# Altium schematic symbol library RFID Board.SchLib: 108 symbols (part 2 of 2)
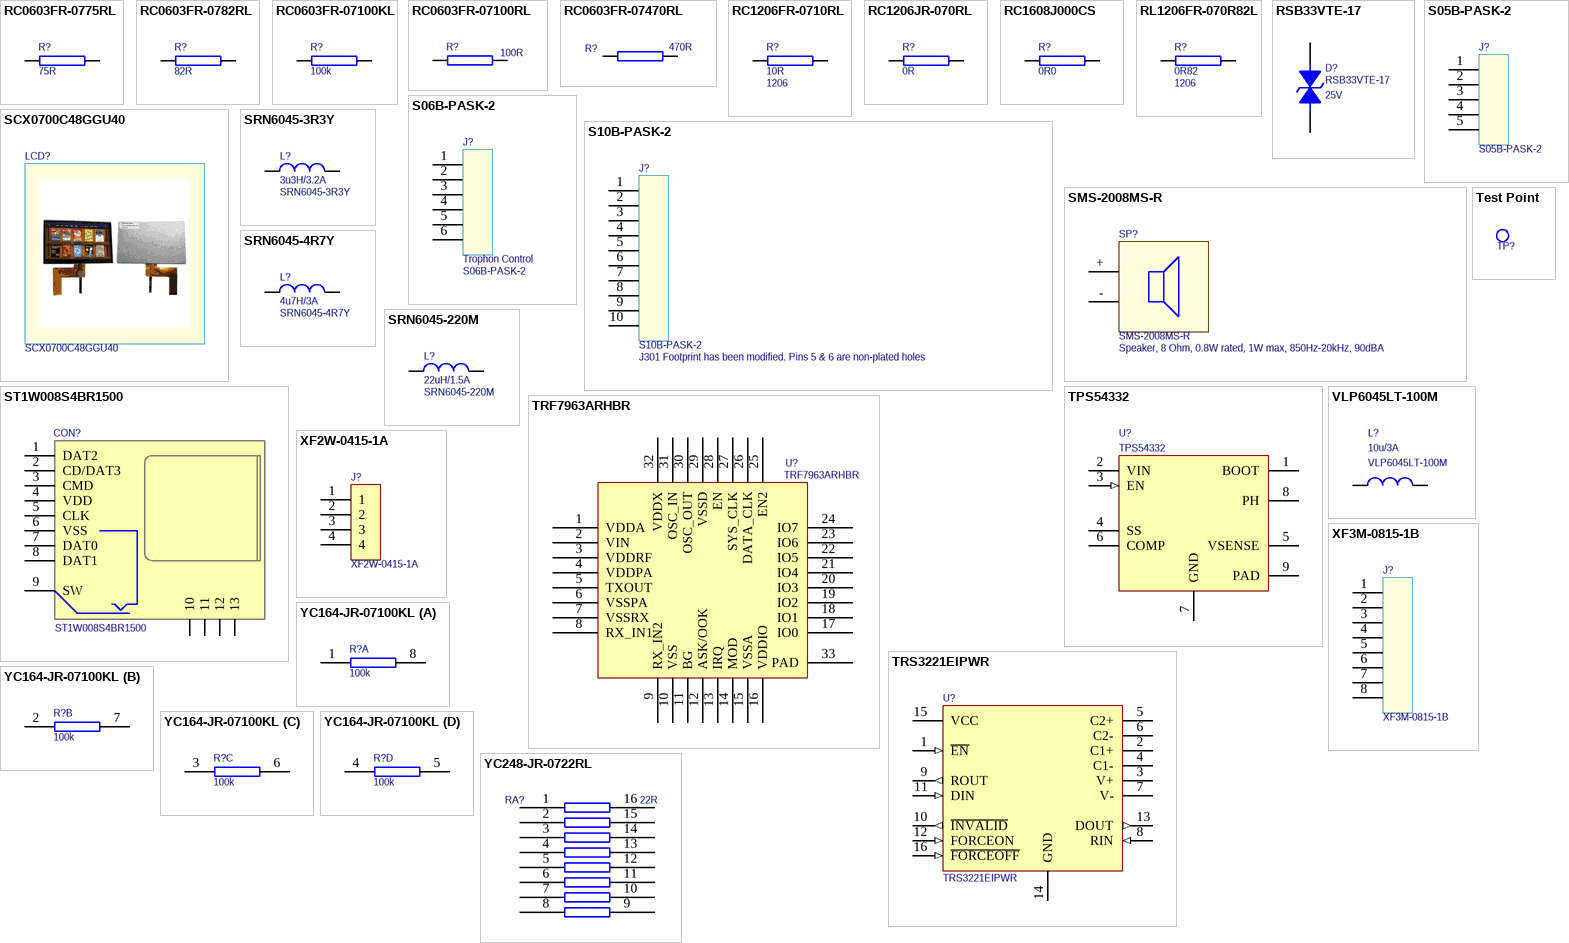
[diagram p3: symbols RC0603FR-0775RL to YC248-JR-0722RL]

## RC0603FR-07100KL
designator R?, comment 100k
Resistor, Thick Film, 0.1W, ±1%, ±100ppm/°C; 02 Part Number: RC0603FR-07100KL; 08 Manufacturer: Yageo; 13 Reviewed By: P.Moutzouris; 06 Package: 0603; 12 Author: D.Grace; 05 Footprint Type: SMD; 03 Description: Resistor, Thick Film, 0.1W, ±1%, ±100ppm/°C; 04 Value: 100k; 09 Digikey PN: 311-100KHRTR-ND; 01 Part Category: Resistor; ComponentLink1Description: Datasheet; ComponentLink1URL: L:\Datasheet\Resistor\PYu-RC0603_51_RoHS_L_4.pdf
footprint RESC1608X06N(0603) (Chip Resistor 0603, 2-Leads, Body 1.6x0.8mm, IPC Medium Density)
pins: 1, 2

## RC0603FR-07100RL
designator R?, comment 100R
Resistor, Thick Film, 0.1W, ±1%, ±100ppm/°C; 02 Part Number: RC0603FR-07100RL; 08 Manufacturer: Yageo; 13 Reviewed By: P.Moutzouris; 06 Package: 0603; 12 Author: D.Grace; 05 Footprint Type: SMD; 03 Description: Resistor, Thick Film, 0.1W, ±1%, ±100ppm/°C; 04 Value: 100R; 09 Digikey PN: 311-100HRTR-ND; 01 Part Category: Resistor; ComponentLink1Description: Datasheet; ComponentLink1URL: L:\Datasheet\Resistor\PYu-RC0603_51_RoHS_L_4.pdf
footprint RESC1608X06N(0603) (Chip Resistor 0603, 2-Leads, Body 1.6x0.8mm, IPC Medium Density)
pins: 1, 2

## RC0603FR-07470RL
designator R?, comment 470R
Resistor, Thick Film, 0.1W, ±1%, ±100ppm/°C; 02 Part Number: RC0603FR-07470RL; 08 Manufacturer: Yageo; 13 Reviewed By: P.Moutzouris; 06 Package: 0603; 12 Author: D.Grace; 05 Footprint Type: SMD; 03 Description: Resistor, Thick Film, 0.1W, ±1%, ±100ppm/°C; 04 Value: 470R; 09 Digikey PN: 311-470HRTR-ND; 01 Part Category: Resistor; ComponentLink1Description: Datasheet; ComponentLink1URL: L:\Datasheet\Resistor\PYu-RC0603_51_RoHS_L_4.pdf
footprint RESC1608X06N(0603) (Chip Resistor 0603, 2-Leads, Body 1.6x0.8mm, IPC Medium Density)
pins: 1, 2

## RC1206FR-0710RL
designator R?, comment 10R  06 Package: 1206
Resistor, Thick Film, 0.25W, ±1%, ±100ppm/°C; 08 Manufacturer: Yageo; 02 Part Number: RC1206FR-0710RL; 12 Author: M.Fineschi; 05 Footprint Type: SMD; 03 Description: Resistor, Thick Film, 0.25W, ±1%, ±100ppm/°C; 04 Value: 10R; 09 Digikey PN: 311-10.0FRTR-ND; 01 Part Category: Resistor; ComponentLink1Description: Datasheet; ComponentLink1URL: L:\Datasheet\Resistor\PYu-RC1206_51_RoHS_L-4.pdf
footprint RESC3116X07N(1206) (Chip Resistor, 2-Leads, Body 3.10x1.60mm, IPC Medium Density)
pins: 1, 2

## RC1206JR-070RL
designator R?, comment 0R
Resistor, Thick Film, 0.25W, ±1%, ±100ppm/°C; 08 Manufacturer: Yageo; 02 Part Number: RC1206JR-070RL; 06 Package: 1206; 12 Author: M.Fineschi; 05 Footprint Type: SMD; 03 Description: Resistor, Thick Film, 0.25W, ±1%, ±100ppm/°C; 04 Value: 0R; 09 Digikey PN: 311-0.0ERTR-ND; 01 Part Category: Resistor; ComponentLink1Description: Datasheet; ComponentLink1URL: L:\Datasheet\Resistor\PYu-RC1206_51_RoHS_L-4.pdf
footprint RESC3116X07N(1206) (Chip Resistor, 2-Leads, Body 3.10x1.60mm, IPC Medium Density)
pins: 1, 2

## RC1608J000CS
designator R?, comment 0R0
Resistor, Thick Film, 0.1W, ±1%, ±100ppm/°C; 02 Part Number: RC1608J000CS; 08 Manufacturer: Samsung Electro-Mechanics; 13 Reviewed By: P.Moutzouris; 06 Package: 0603; 12 Author: K.Sukumar; 05 Footprint Type: SMD; 03 Description: Resistor, Thick Film, 0.1W, ±1%, ±100ppm/°C; 04 Value: 0R0; 09 Digikey PN: 1276-3510-2-ND; 01 Part Category: Resistor; ComponentLink1Description: Datasheet; ComponentLink1URL: L:\Datasheet\Resistor\Chip_Resistor.pdf
footprint RESC1608X06N(0603) (Chip Resistor 0603, 2-Leads, Body 1.6x0.8mm, IPC Medium Density)
pins: 1, 2

## RL1206FR-070R82L
designator R?, comment 0R82  06 Package: 1206
Resistor, Thick Film, 0.25W, ±1%, ±100ppm/°C; 08 Manufacturer: Yageo; 02 Part Number: RL1206FR-070R82L; 12 Author: M.Fineschi; 05 Footprint Type: SMD; 03 Description: Resistor, Thick Film, 0.25W, ±1%, ±100ppm/°C; 04 Value: 0R82; 09 Digikey PN: 311-.82LWTR-ND; 01 Part Category: Resistor; ComponentLink1Description: Datasheet; ComponentLink1URL: L:\Datasheet\Resistor\PYu-RC1206_51_RoHS_L-4.pdf
footprint RESC3116X07N(1206) (Chip Resistor, 2-Leads, Body 3.10x1.60mm, IPC Medium Density)
pins: 1, 2

## RSB33VTE-17
designator D?  Notes: 25V
Diode, TVS, Bidirectional, Standoff 25V, Break down 29.7V, -55°C to 125°C; 02 Part Number: 8240RSB33VTE-1721; 01 Part Category: Discreet; 08 Manufacturer: Rohm Semiconductor; 06 Package: SC-90; 05 Footprint Type: SMD; 12 Author: M.Fineschi; 03 Description: Diode, TVS, Bidirectional, Standoff 25V, Break down 29.7V, -55°C to 125°C; 04 Value: RSB33VTE-17; ComponentLink1Description: Datasheet; ComponentLink1URL: I:\Engineering\Library\Datasheet\Protection\rsb33v.pdf; 09 Digikey PN: RSB33VTE-17TR-ND
footprint SODFL250X70-2N (SODFL, 2-Leads, Body 1.25x2.50mm, IPC Medium Density)
pins: 1, 2

## S05B-PASK-2
designator J?
Connector 5 way, 2mm, 3A, TH Right-Angle; 08 Manufacturer: JST; 12 Author: J.McLachlan; Notes: Mates with PAP-05V-S-ND or 05PAF-6S and PAFS-05V-S; 02 Part Number: S05B-PASK-2; 03 Description: Connector 5 way, 2mm, 3A, TH Right-Angle; 04 Value: S05B-PASK-2; 01 Part Category: Connector; 06 Package: TH; 09 Digikey PN: 455-1850-ND; 05 Footprint Type: TH; ComponentLink1Description: Datasheet; ComponentLink1URL: L:\Datasheet\Connector\ePA-F.pdf
footprint S05B-PASK-2
pins: 1, 2, 3, 4, 5

## S06B-PASK-2
designator J?, comment Trophon Control  02 Part Number: S06B-PASK-2
Connector 6 way, 2mm, 3A, TH Right-Angle; 08 Manufacturer: JST Sales America; 12 Author: M.Fineschi; Notes: Mates with PAP-05V-S-ND or 05PAF-6S and PAFS-05V-S; 03 Description: Connector 6 way, 2mm, 3A, TH Right-Angle; 04 Value: S06B-PASK-2; 01 Part Category: Connector; 06 Package: TH; 09 Digikey PN: 455-1851-ND; 05 Footprint Type: TH; ComponentLink1Description: Datasheet; ComponentLink1URL: L:\Datasheet\Connector\ePA-F.pdf
footprint S06B-PASK-2
pins: 1, 2, 3, 4, 5, 6

## S10B-PASK-2
designator J?  Notes: J301 Footprint has been modified. Pins 5 & 6 are non-plated holes
Connector 10 way, 2mm, 3A, TH Right-Angle; 08 Manufacturer: JST; 12 Author: M.Fineschi; 02 Part Number: S10B-PASK-2; 03 Description: Connector 10 way, 2mm, 3A, TH Right-Angle; 04 Value: S10B-PASK-2; 01 Part Category: Connector; 06 Package: TH; 09 Digikey PN: 455-1855-ND; 05 Footprint Type: TH; ComponentLink1Description: Datasheet; ComponentLink1URL: L:\Datasheet\Connector\ePA-F.pdf
footprint S010B-PASK-2
pins: 1, 2, 3, 4, 5, 6, 7, 8, 9, 10

## SCX0700C48GGU40
designator LCD?  (mechanical)
LCD, TFT, 7 inch, 800x480, 3V3, 40 pin 24bit RGB, 6 pin I2C Capacitive Touch, 9V6 160mA LED Backlight; 01 Part Category: LCD Screen; 08 Manufacturer: Anders; 03 Description: LCD, TFT, 7 inch, 800x480, 3V3, 24bit RGB, Capacitive Touch, 9V6 160mA LED Backlight; 12 Author: M.Fineschi; 02 Part Number: SCX0700C48GGU40; 04 Value: SCX0700C48GGU40; ComponentLink1Description: Datasheet; ComponentLink1URL: L:\Datasheet\LCD\Anders - SCX0700C48GGU40.pdf

## SMS-2008MS-R
designator SP?
Speaker, 8 Ohm, 0.8W rated, 1W max, 850Hz-20kHz, 90dBA; 01 Part Category: Audio; 08 Manufacturer: Pui Audio; 06 Package: 20x20x4.5mm; 12 Author: M.Fineschi; 05 Footprint Type: SMD; 02 Part Number: SMS-2008MS-R; 04 Value: SMS-2008MS-R; ComponentLink1Description: Datasheet; ComponentLink1URL: L:\Datasheet\Audio\SMS-2008MS-R.pdf; 03 Description: Speaker, 8 Ohm, 0.8W rated, 1W max, 850Hz-20kHz, 90dBA
footprint SMS-2008MS-R (Speaker SMT, 20x20mm)
pins: +, -

## SRN6045-3R3Y
designator L?, comment 3u3H/3.2A  02 Part Number: SRN6045-3R3Y
Inductor, 3u3H , I = 3.2A, 30.2mOhm, SRF 27MHz, ±30%, 5A Saturation; 01 Part Category: Passive; 08 Manufacturer: Bourns Inc; 06 Package: 6mm x 6mm; 05 Footprint Type: SMD; 12 Author: J.McLachlan; 03 Description: Inductor, 3u3H , I = 3.2A, 30.2mOhm, SRF 27MHz, ±30%, 5A Saturation; 04 Value: 3u3H; ComponentLink1Description: Datasheet; ComponentLink1URL: L:\Datasheet\Inductor\SRN6045.pdf; 09 Digikey PN: SRN6045-3R3YTR-ND
footprint SRN6045-1R0Y (6mm x 6mm, 2 pin Inductor)
pins: 1, 2

## SRN6045-4R7Y
designator L?, comment 4u7H/3A  02 Part Number: SRN6045-4R7Y
Inductor, 4u7H , I = 3A, 37.6mOhm, SRF 22MHz, ±30%, 4A Saturation; 01 Part Category: Passive; 08 Manufacturer: Bourns Inc; 06 Package: 6mm x 6mm; 05 Footprint Type: SMD; 12 Author: J.McLachlan; 03 Description: Inductor, 4u7H , I = 3A, 37.6mOhm, SRF 22MHz, ±30%, 4A Saturation; 04 Value: 4u7H; ComponentLink1Description: Datasheet; ComponentLink1URL: L:\Datasheet\Inductor\SRN6045.pdf; 09 Digikey PN: SRN6045-4R7YTR-ND
footprint SRN6045-1R0Y (6mm x 6mm, 2 pin Inductor)
pins: 1, 2

## SRN6045-220M
designator L?, comment 22uH/1.5A  02 Part Number: SRN6045-220M
Inductor, 22uH , I = 1.5A,142mOhm, SRF 11MHz, ±20%, 1.9A Saturation; 08 Manufacturer: Bourns Inc; 06 Package: 6mm x 6mm; 05 Footprint Type: SMD; 12 Author: M.Fineschi; 03 Description: Inductor, 22uH , I = 1.5A,142mOhm, SRF 11MHz, ±20%, 1.9A Saturation; 04 Value: 22uH; 01 Part Category: Inductor; ComponentLink1Description: Datasheet; ComponentLink1URL: L:\Datasheet\Inductor\SRN6045.pdf; 09 Digikey PN: SRN6045-150MTR-ND
footprint SRN6045-1R0Y (6mm x 6mm, 2 pin Inductor)
pins: 1, 2

## ST1W008S4BR1500
designator CON?
Connector Micro SD-Card, With Card Detection Switch, Hinged Lid, Top Board Mounting; 08 Manufacturer: JAE Electronics; 06 Package: SMD; 12 Author: M.Fineschi; 03 Description: Connector Micro SD-Card, With Card Detection Switch, Hinged Lid, Top Board Mounting; 04 Value: ST1W008S4BR1500; 01 Part Category: Connector; 09 Digikey PN: 670-2345-1-ND; 05 Footprint Type: SMD; ComponentLink1Description: Datasheet; ComponentLink1URL: I:\Engineering\Library\Datasheet\Connector\ST1W008S4BR1500.pdf; 02 Part Number: ST1W008S4BR1500
footprint ST1W008S4BR1500 (JAE micro-SD card slot, 13.85 x 21.55 mm)
pins: 1 DAT2, 2 CD/DAT3, 3 CMD, 4 VDD, 5 CLK, 6 VSS, 7 DAT0, 8 DAT1, 9 SW, 10, 11, 12, 13

## Test Point
designator TP?, comment LFX_P  (value not drawn)  (no BOM)
Test Point; 01 Part Category: PCB; 12 Author: D.Grace
footprint Test Point 1mm (SMD Test Point 1mm)
pins: TP

## TPS54332
designator U?
Step Down, Adjustable, Vomin = 0.8V, Vin = 3.5 - 28V, Fs = 1MHz, Io = 3.5A, -40  ~ 125C; 01 Part Category: IC; 08 Manufacturer: Texas Instruments; 06 Package: 8 SOIC; 05 Footprint Type: SMD; 12 Author: M.Fineschi; 02 Part Number: TPS54332; 03 Description: Step Down, Adjustable, Vomin = 0.8V, Vin = 3.5 - 28V, Fs = 1MHz, Io = 3.5A, -40  ~ 125C; 04 Value: TPS54332; ComponentLink1Description: Datasheet; ComponentLink1URL: L:\Datasheet\IC\tps54332.pdf; 09 Digikey PN: 296-24141-5-ND
footprint SOIC127P600X170_HS-9N_b (SOIC, 8-Leads, Body 4.90x3.90mm, Pitch 1.27mm, Thermal Pad 3.10x2.40mm, IPC Medium Density)
pins: 1 BOOT (power), 2 VIN (power), 3 EN (in), 4 SS, 5 VSENSE (power), 6 COMP, 7 GND (power), 8 PH (power), 9 PAD (power)

## TRF7963ARHBR
designator U?
RFID/NFC AFE 13.56MHZ; 01 Part Category: IC; 08 Manufacturer: TI; 03 Description: IC RFID FRONT END 13.56MHZ; 06 Package: QFN-32; 05 Footprint Type: SMD; 12 Author: K.Sukumar; 02 Part Number: TRF7963ARHBR; 04 Value: TRF7963ARHBR; ComponentLink1Description: Datasheet; ComponentLink1URL: L:\Datasheet\IC\trf7963a.pdf; 09 Digikey PN: TRF7963ARHBR-ND
footprint QFN-32 (QFN, 32-Leads, Body 5.2x5.2mm (max), Pitch 0.50mm, IPC Medium Density)
pins: 1 VDDA, 2 VIN, 3 VDDRF, 4 VDDPA, 5 TXOUT, 6 VSSPA, 7 VSSRX, 8 RX_IN1, 9 RX_IN2, 10 VSS, 11 BG, 12 ASK/OOK, 13 IRQ, 14 MOD, 15 VSSA, 16 VDDIO, 17 IO0, 18 IO1, 19 IO2, 20 IO3, 21 IO4, 22 IO5, 23 IO6, 24 IO7, 25 EN2, 26 DATA_CLK, 27 SYS_CLK, 28 EN, 29 VSSD, 30 OSC_OUT, 31 OSC_IN, 32 VDDX, 33 PAD

## TRS3221EIPWR
designator U?
RS232 Transceiver, Vin 3V - 5.5V, Supports Full Duplex, 1 Channel, Low Power, 1uA sleep current, 300mV Hysteresis, -40C to 85C; 01 Part Category: IC; 08 Manufacturer: TI; 05 Footprint Type: SMD; 06 Package: TSSOP-16; 12 Author: M.Fineschi; 02 Part Number: TRS3221EIPWR; 03 Description: RS232 Transceiver, Vin 3V - 5.5V, Supports Full Duplex, 1 Channel, Low Power, 1uA sleep current, 300mV Hysteresis, -40C to 85C; 04 Value: TRS3221EIPWR; 09 Digikey PN: 296-22589-2-ND; ComponentLink1Description: Datasheet; ComponentLink1URL: L:\Datasheet\IC\trs3221e.pdf
footprint TSOP65P640X120-16N (TSOP, 16-Leads, Body 5.00x4.40mm, Pitch 0.65mm, IPC Medium Density)
pins: 1 ~{EN} (in), 2 C1+ (power), 3 V+ (power), 4 C1- (power), 5 C2+ (power), 6 C2- (power), 7 V- (power), 8 RIN (in), 9 ROUT (out), 10 ~{INVALID} (out), 11 DIN (in), 12 FORCEON (in), 13 DOUT (out), 14 GND, 15 VCC (power), 16 ~{FORCEOFF} (in)

## VLP6045LT-100M
designator L?, comment 10u/3A  02 Part Number: VLP6045LT-100M
Inductor, 10µH , 3A rated, 3.2A Saturation, 72mOhm; 08 Manufacturer: TDK Corporation; 04 Value: 10uH; 06 Package: Custom; 05 Footprint Type: SMD; 12 Author: M.Fineschi; 03 Description: Inductor, 10µH , 3A rated, 3.2A Saturation, 72mOhm; 01 Part Category: Inductor; ComponentLink1Description: Datasheet; ComponentLink1URL: L:\Datasheet\Inductor\e531_vlp.pdf; 09 Digikey PN: 445-8750-2-ND
footprint VLP6045LT-100M (6mm x 6mm, 2 pin Inductor)
pins: 1, 2

## XF2W-0415-1A
designator J?
Connector, FPC, 4 Pos, Flip Type Backlock, Pitch = 0.5mm, 50V, 0.5A, -30°C - 85°C; 08 Manufacturer: Omron Electronics; 06 Package: SMD; 12 Author: M.Fineschi; 02 Part Number: XF2W-0415-1A; 03 Description: Connector, FPC, 4 Pos, Flip Type Backlock, Pitch = 0.5mm, 50V, 0.5A, -30°C - 85°C; 04 Value: XF2W-0415-1A; 01 Part Category: Connector; 05 Footprint Type: SMD; ComponentLink1Description: Datasheet; ComponentLink1URL: L:\Datasheet\Connector\en-xf2w.pdf; 09 Digikey PN: OR1148TR-ND
footprint XF2W-0415-1A (FPC Connector, 4 pos, 0.5mm pitch)
pins: 1, 2, 3, 4

## XF3M-0815-1B
designator J?
Connector, FFC, Flip Type, Top and Bottom, 8 way, 0.5mm, Right-Angle; 08 Manufacturer: Omron Electronics; 06 Package: SMD; 12 Author: M.Fineschi; 02 Part Number: XF3M-0815-1B; 03 Description: Connector, FFC, Flip Type, Top and Bottom, 8 way, 0.5mm, Right-Angle; 04 Value: XF3M-0815-1B; 01 Part Category: Connector; 09 Digikey PN: Z5256TR-ND; 05 Footprint Type: SMD; ComponentLink1Description: Datasheet; ComponentLink1URL: L:/Datasheet/Connector/en-xf3m.pdf
footprint XF3M-0815-1B (Connector, FFC, Flip, Top & Bottom, 8 way, 2mm Height, Right-Angle, 4x5.7mm)
pins: 1, 2, 3, 4, 5, 6, 7, 8

## YC164-JR-07100KL
designator R?, comment 100k
Resistor, Array, 100k, 4x0603, 0.0625W, ±200ppm/°C, ±5%; 02 Part Number: YC164-JR-07100KL; 08 Manufacturer: Yageo; 06 Package: 0612; 05 Footprint Type: SMD; 12 Author: J.McLachlan; 03 Description: Resistor, Array, 100k, 4x0603, 0.0625W, ±200ppm/°C, ±5%; 04 Value: 100k; 01 Part Category: Resistor; ComponentLink1Description: Datasheet; ComponentLink1URL: L:\Datasheet\Resistor\PYu-YC_TC_group_51_RoHS_L_0.pdf; 09 Digikey PN: YC164J-100KTR-ND
footprint CAC-80P319X159-8M (Chip Array, ConvexS, 8-Leads, Pitch 0.80mm,  Body 3.20x1.60mm,  IPC Low Density)
part A pins: 1, 8
part B pins: 2, 7
part C pins: 3, 6
part D pins: 4, 5

## YC248-JR-0722RL
designator RA?, comment 22R
Resistor Array, Thick Film, 22R, 1606, 62.5mW, ±200ppm/°C, ±5%; 02 Part Number: YC248-JR-0722RL; 08 Manufacturer: Vishay Dale; 06 Package: 1606; 05 Footprint Type: SMD; 12 Author: M.Fineschi; 03 Description: Resistor Array, Thick Film, 22R, 1606, 62.5mW, ±200ppm/°C, ±5%; 04 Value: 22R; 01 Part Category: Resistor; ComponentLink1Description: Datasheet; ComponentLink1URL: L:\Datasheet\Resistor\YC248-JR-0722RL.pdf; 09 Digikey PN: YC248J-22TR-ND
footprint CAC-50P400X159-16N (Chip Array, ConvexS, 16-Leads, Pitch 0.50mm,  Body 4.00x1.60mm,  IPC Medium Density)
pins: 1, 2, 3, 4, 5, 6, 7, 8, 9, 10, 11, 12, 13, 14, 15, 16